# Altium schematic symbol library HyTechFrames.SCHLIB: 2 symbols
Pins are listed as number, name and electrical type; pins without a type are passive.

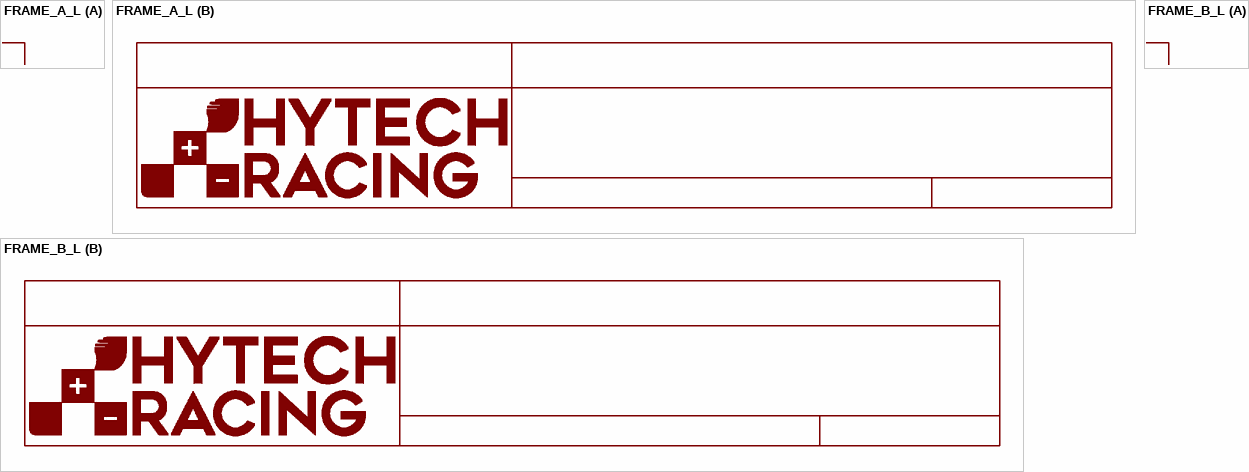
[diagram p0: symbols FRAME_A_L to FRAME_B_L]

## FRAME_A_L
designator ?, comment HyTech frame size A, landscape.  (value not drawn)
GateName_1: G$1; SymbolName_1: FRAME_A_L; GateName_2: G$2; SymbolName_2: DOCFIELD; LibraryName: HyTechFrames; DeviceSetName: FRAME_A_L; ORIENTATION: LANDSCAPE; SIZE: A

## FRAME_B_L
designator ?, comment HyTech frame size B, landscape.  (value not drawn)
GateName_1: G$1; SymbolName_1: FRAME_B_L; GateName_2: G$2; SymbolName_2: DOCFIELD; LibraryName: HyTechFrames; DeviceSetName: FRAME_B_L; ORIENTATION: LANDSCAPE; SIZE: B